# Altium integrated library Analog Devices Data Converters Digital-to-Analog Converters.IntLib: 2231 symbols (part 86 of 181)
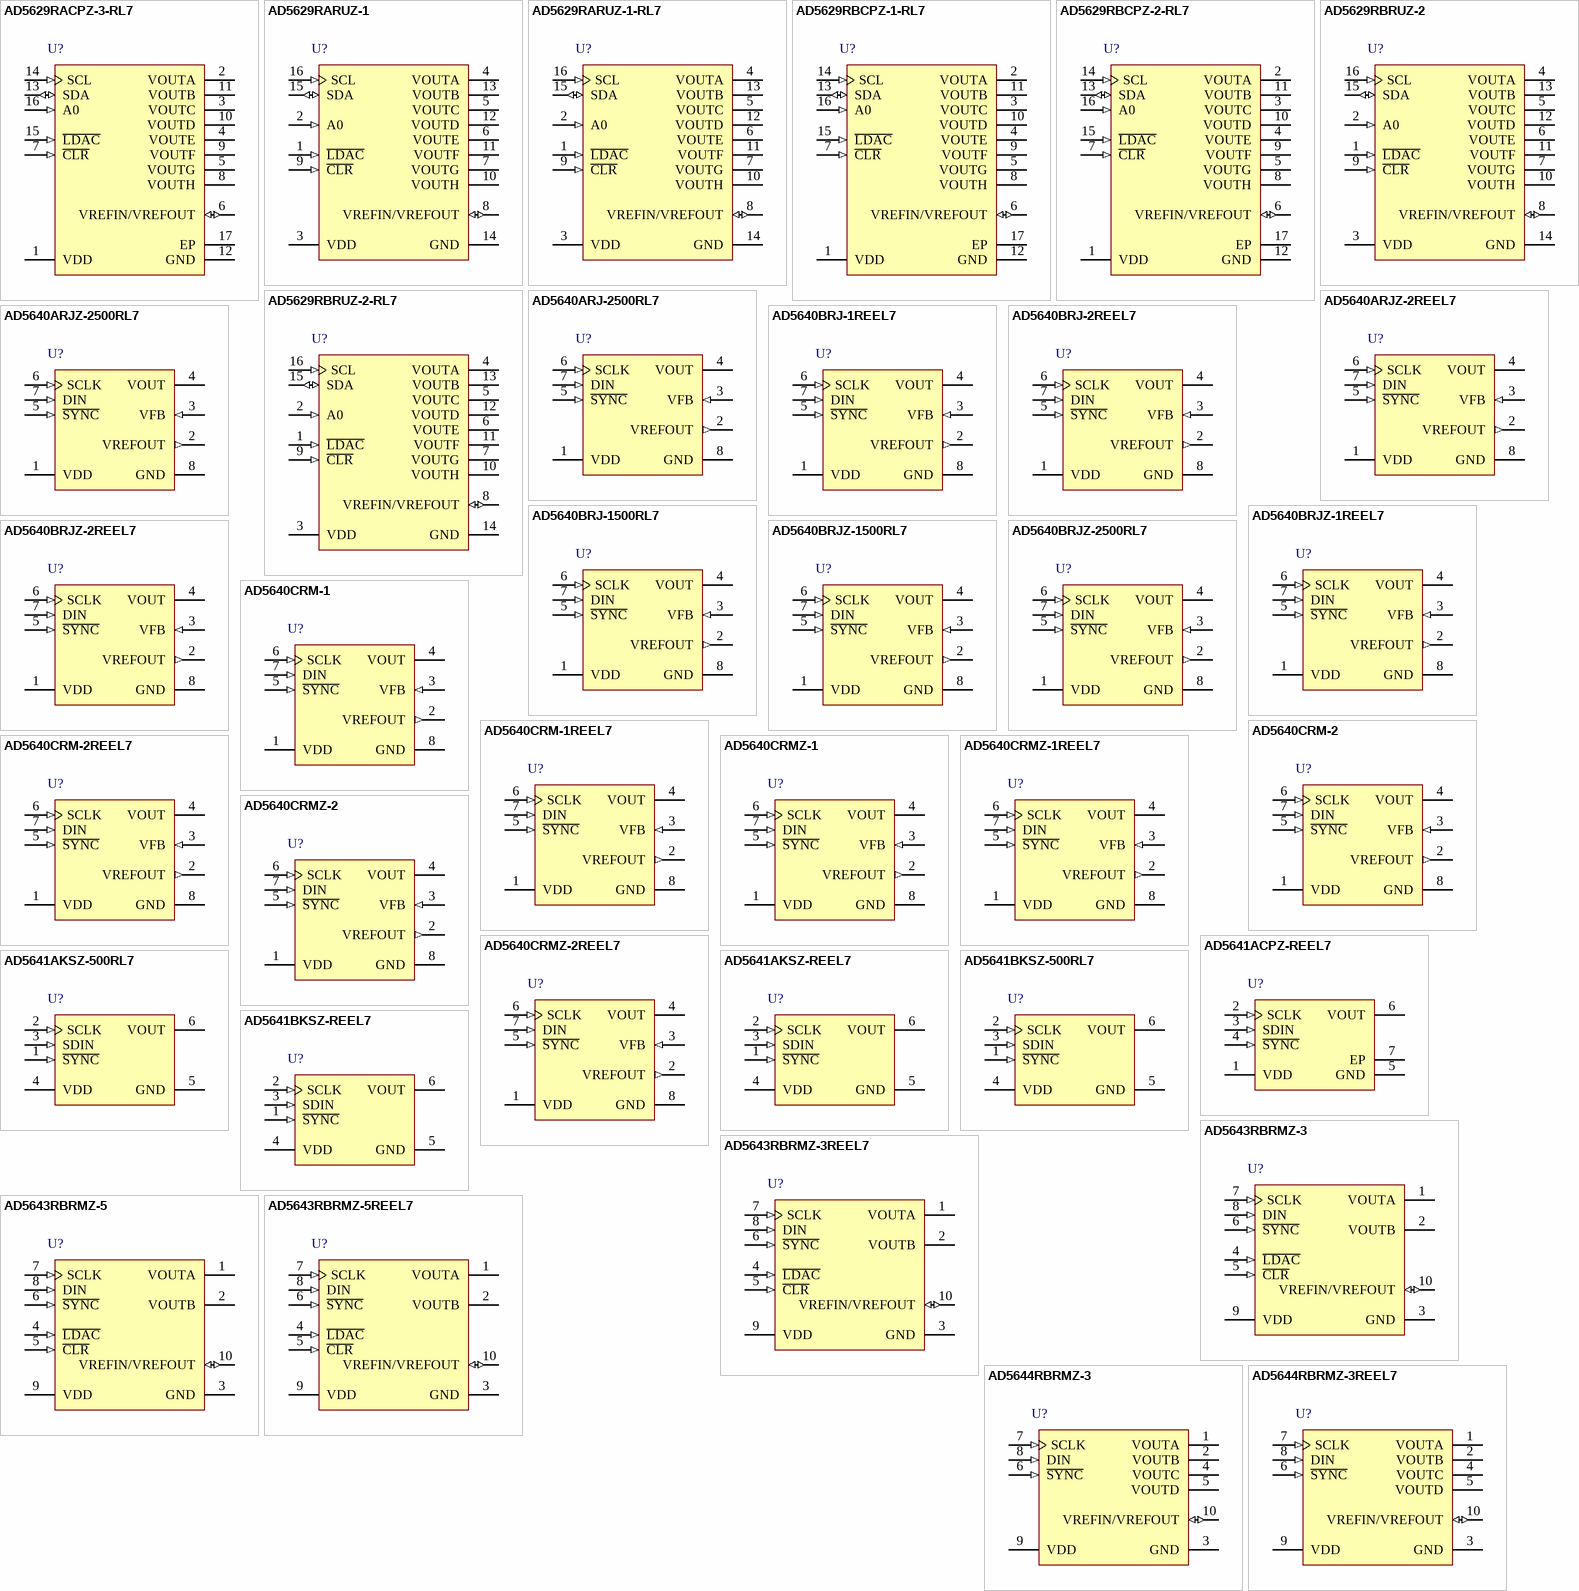
[diagram p199: symbols AD5629RACPZ-3-RL7 to AD5644RBRMZ-3REEL7]

## AD5640BRJZ-1REEL7
designator U?
Single 14-Bit nanoDAC with 5 ppm/degC On-Chip Reference, -40 to +105 degC, RJ-8, Pb-Free, Reel; Generic Part Number: AD5640; Manufacturer: Analog Devices; PartNumber: AD5640BRJZ-1REEL7; # DAC Outputs: 1; Max V+: 5.5V; Op Pwr Diss: 5mW; Resolution (Bits): 14; Settling Time: 8µs; Single Supply: Yes; DatasheetVersion: Rev.F; PackageVersion: 121608-A; PackageReference: RJ-8; PackageDescription: 8-Lead Thin Small Outline Transistor Package [SOT-23]; Supplier 1: Digi-Key; Supplier Part Number 1: AD5640BRJZ-1REEL7TR-ND; Supplier 2: Digi-Key; Supplier Part Number 2: AD5640BRJZ-1REEL7CT-ND; Supplier 3: Digi-Key; Supplier Part Number 3: AD5640BRJZ-1REEL7DKR-ND; Supplier 4: Farnell; Supplier Part Number 4: 2314130; Supplier 5: Newark; Supplier Part Number 5: 67W3165; Supplier 6: Newark; Supplier Part Number 6: 89M5008; Supplier 7: Mouser; Supplier Part Number 7: 584-AD5640BRJZ-1R7; Packing: Reel; RoHS: Y; Mounting Technology: Surface Mount; Code_JEDEC: MO-178-BA; ComponentLink1Description: Manufacturer URL; ComponentLink1URL: http://www.analog.com/en/index.html; ComponentLink2Description: Datasheet; ComponentLink2URL: http://www.analog.com/static/imported-files/data_sheets/AD5620_5640_5660.pdf; ComponentLink3Description: Package Specification; ComponentLink3URL: http://www.analog.com/static/imported-files/packages/PKG_PDF/SOT-23(RJ)/RJ_8.pdf; ComponentLink4Description: Product URL; ComponentLink4URL: http://www.analog.com/en/digital-to-analog-converters/da-converters/ad5640/products/product.html
footprint RJ-8_N (SOP, 8-Leads, Body 2.9x1.6mm, Pitch 0.65mm, IPC Medium Density)
footprint RJ-8_L (SOP, 8-Leads, Body 2.9x1.6mm, Pitch 0.65mm, IPC High Density)
footprint RJ-8_M (SOP, 8-Leads, Body 2.9x1.6mm, Pitch 0.65mm, IPC Low Density)
pins: 1 VDD (power) "Power Supply Input. These parts can operate from 2.7 V to 5.5 V. VDD should be decoupled to GND.", 2 VREFOUT (out) "Reference Voltage Output.", 3 VFB (in) "Feedback Connection for the Output Amplifier. VFB should be connected to VOUT for normal operation.", 4 VOUT (hiz) "Analog Output Voltage from DAC. The output amplifier has rail-to-rail operation.", 5 ~{SYNC} (in) "Level-Triggered Control Input (Active Low). This is the frame synchronization signal for the input data. When S\Y\N\C\ goes low, it enables the input shift register and data is transferred in on the falling edges of the (See Datasheet)", 6 SCLK (in) "Serial Clock Input. Data is clocked into the input shift register on the falling edge of the serial clock input. Data can be transferred at rates up to 30 MHz.", 7 DIN (in) "Serial Data Input. The AD5660 has a 24-bit shift register, and the AD5620/AD5640 have a 16-bit shift register.Data is clocked into the register on the falling edge of the serial clock input.", 8 GND (power) "Ground Reference Point for all Circuitry on the Part."

## AD5640BRJZ-2REEL7
designator U?
Single 14-Bit nanoDAC with 5 ppm/degC On-Chip Reference, -40 to +105 degC, RJ-8, Pb-Free, Reel; Generic Part Number: AD5640; Manufacturer: Analog Devices; PartNumber: AD5640BRJZ-2REEL7; # DAC Outputs: 1; Max V+: 5.5V; Op Pwr Diss: 5mW; Resolution (Bits): 14; Settling Time: 8µs; Single Supply: Yes; DatasheetVersion: Rev.F; PackageVersion: 121608-A; PackageReference: RJ-8; PackageDescription: 8-Lead Thin Small Outline Transistor Package [SOT-23]; Supplier 1: Digi-Key; Supplier Part Number 1: AD5640BRJZ-2REEL7TR-ND; Supplier 2: Digi-Key; Supplier Part Number 2: AD5640BRJZ-2REEL7CT-ND; Supplier 3: Digi-Key; Supplier Part Number 3: AD5640BRJZ-2REEL7DKR-ND; Supplier 4: Mouser; Supplier Part Number 4: 584-AD5640BRJZ-2R7; Packing: Reel; RoHS: Y; Mounting Technology: Surface Mount; Code_JEDEC: MO-178-BA; ComponentLink1Description: Manufacturer URL; ComponentLink1URL: http://www.analog.com/en/index.html; ComponentLink2Description: Datasheet; ComponentLink2URL: http://www.analog.com/static/imported-files/data_sheets/AD5620_5640_5660.pdf; ComponentLink3Description: Package Specification; ComponentLink3URL: http://www.analog.com/static/imported-files/packages/PKG_PDF/SOT-23(RJ)/RJ_8.pdf; ComponentLink4Description: Product URL; ComponentLink4URL: http://www.analog.com/en/digital-to-analog-converters/da-converters/ad5640/products/product.html
footprint RJ-8_N (SOP, 8-Leads, Body 2.9x1.6mm, Pitch 0.65mm, IPC Medium Density)
footprint RJ-8_L (SOP, 8-Leads, Body 2.9x1.6mm, Pitch 0.65mm, IPC High Density)
footprint RJ-8_M (SOP, 8-Leads, Body 2.9x1.6mm, Pitch 0.65mm, IPC Low Density)
pins: 1 VDD (power) "Power Supply Input. These parts can operate from 2.7 V to 5.5 V. VDD should be decoupled to GND.", 2 VREFOUT (out) "Reference Voltage Output.", 3 VFB (in) "Feedback Connection for the Output Amplifier. VFB should be connected to VOUT for normal operation.", 4 VOUT (hiz) "Analog Output Voltage from DAC. The output amplifier has rail-to-rail operation.", 5 ~{SYNC} (in) "Level-Triggered Control Input (Active Low). This is the frame synchronization signal for the input data. When S\Y\N\C\ goes low, it enables the input shift register and data is transferred in on the falling edges of the (See Datasheet)", 6 SCLK (in) "Serial Clock Input. Data is clocked into the input shift register on the falling edge of the serial clock input. Data can be transferred at rates up to 30 MHz.", 7 DIN (in) "Serial Data Input. The AD5660 has a 24-bit shift register, and the AD5620/AD5640 have a 16-bit shift register.Data is clocked into the register on the falling edge of the serial clock input.", 8 GND (power) "Ground Reference Point for all Circuitry on the Part."

## AD5640BRJZ-1500RL7
designator U?
Single 14-Bit nanoDAC with 5 ppm/degC On-Chip Reference, -40 to +105 degC, RJ-8, Pb-Free, Reel; Generic Part Number: AD5640; Manufacturer: Analog Devices; PartNumber: AD5640BRJZ-1500RL7; # DAC Outputs: 1; Max V+: 5.5V; Op Pwr Diss: 5mW; Resolution (Bits): 14; Settling Time: 8µs; Single Supply: Yes; DatasheetVersion: Rev.F; PackageVersion: 121608-A; PackageReference: RJ-8; PackageDescription: 8-Lead Thin Small Outline Transistor Package [SOT-23]; Supplier 1: Digi-Key; Supplier Part Number 1: AD5640BRJZ-1500RL7TR-ND; Supplier 2: Digi-Key; Supplier Part Number 2: AD5640BRJZ-1500RL7CT-ND; Supplier 3: Digi-Key; Supplier Part Number 3: AD5640BRJZ-1500RL7DKR-ND; Supplier 4: Newark; Supplier Part Number 4: 89M5009; Supplier 5: Mouser; Supplier Part Number 5: 584-AD5640BRJZ1500R7; Packing: Reel; RoHS: Y; Mounting Technology: Surface Mount; Code_JEDEC: MO-178-BA; ComponentLink1Description: Manufacturer URL; ComponentLink1URL: http://www.analog.com/en/index.html; ComponentLink2Description: Datasheet; ComponentLink2URL: http://www.analog.com/static/imported-files/data_sheets/AD5620_5640_5660.pdf; ComponentLink3Description: Package Specification; ComponentLink3URL: http://www.analog.com/static/imported-files/packages/PKG_PDF/SOT-23(RJ)/RJ_8.pdf; ComponentLink4Description: Product URL; ComponentLink4URL: http://www.analog.com/en/digital-to-analog-converters/da-converters/ad5640/products/product.html
footprint RJ-8_N (SOP, 8-Leads, Body 2.9x1.6mm, Pitch 0.65mm, IPC Medium Density)
footprint RJ-8_L (SOP, 8-Leads, Body 2.9x1.6mm, Pitch 0.65mm, IPC High Density)
footprint RJ-8_M (SOP, 8-Leads, Body 2.9x1.6mm, Pitch 0.65mm, IPC Low Density)
pins: 1 VDD (power) "Power Supply Input. These parts can operate from 2.7 V to 5.5 V. VDD should be decoupled to GND.", 2 VREFOUT (out) "Reference Voltage Output.", 3 VFB (in) "Feedback Connection for the Output Amplifier. VFB should be connected to VOUT for normal operation.", 4 VOUT (hiz) "Analog Output Voltage from DAC. The output amplifier has rail-to-rail operation.", 5 ~{SYNC} (in) "Level-Triggered Control Input (Active Low). This is the frame synchronization signal for the input data. When S\Y\N\C\ goes low, it enables the input shift register and data is transferred in on the falling edges of the (See Datasheet)", 6 SCLK (in) "Serial Clock Input. Data is clocked into the input shift register on the falling edge of the serial clock input. Data can be transferred at rates up to 30 MHz.", 7 DIN (in) "Serial Data Input. The AD5660 has a 24-bit shift register, and the AD5620/AD5640 have a 16-bit shift register.Data is clocked into the register on the falling edge of the serial clock input.", 8 GND (power) "Ground Reference Point for all Circuitry on the Part."

## AD5640BRJZ-2500RL7
designator U?
Single 14-Bit nanoDAC with 5 ppm/degC On-Chip Reference, -40 to +105 degC, RJ-8, Pb-Free, Reel; Generic Part Number: AD5640; Manufacturer: Analog Devices; PartNumber: AD5640BRJZ-2500RL7; # DAC Outputs: 1; Max V+: 5.5V; Op Pwr Diss: 5mW; Resolution (Bits): 14; Settling Time: 8µs; Single Supply: Yes; DatasheetVersion: Rev.F; PackageVersion: 121608-A; PackageReference: RJ-8; PackageDescription: 8-Lead Thin Small Outline Transistor Package [SOT-23]; Supplier 1: Digi-Key; Supplier Part Number 1: AD5640BRJZ-2500RL7TR-ND; Supplier 2: Digi-Key; Supplier Part Number 2: AD5640BRJZ-2500RL7CT-ND; Supplier 3: Digi-Key; Supplier Part Number 3: AD5640BRJZ-2500RL7DKR-ND; Supplier 4: Mouser; Supplier Part Number 4: 584-AD5640BRJZ2500R7; Packing: Reel; RoHS: Y; Mounting Technology: Surface Mount; Code_JEDEC: MO-178-BA; ComponentLink1Description: Manufacturer URL; ComponentLink1URL: http://www.analog.com/en/index.html; ComponentLink2Description: Datasheet; ComponentLink2URL: http://www.analog.com/static/imported-files/data_sheets/AD5620_5640_5660.pdf; ComponentLink3Description: Package Specification; ComponentLink3URL: http://www.analog.com/static/imported-files/packages/PKG_PDF/SOT-23(RJ)/RJ_8.pdf; ComponentLink4Description: Product URL; ComponentLink4URL: http://www.analog.com/en/digital-to-analog-converters/da-converters/ad5640/products/product.html
footprint RJ-8_N (SOP, 8-Leads, Body 2.9x1.6mm, Pitch 0.65mm, IPC Medium Density)
footprint RJ-8_L (SOP, 8-Leads, Body 2.9x1.6mm, Pitch 0.65mm, IPC High Density)
footprint RJ-8_M (SOP, 8-Leads, Body 2.9x1.6mm, Pitch 0.65mm, IPC Low Density)
pins: 1 VDD (power) "Power Supply Input. These parts can operate from 2.7 V to 5.5 V. VDD should be decoupled to GND.", 2 VREFOUT (out) "Reference Voltage Output.", 3 VFB (in) "Feedback Connection for the Output Amplifier. VFB should be connected to VOUT for normal operation.", 4 VOUT (hiz) "Analog Output Voltage from DAC. The output amplifier has rail-to-rail operation.", 5 ~{SYNC} (in) "Level-Triggered Control Input (Active Low). This is the frame synchronization signal for the input data. When S\Y\N\C\ goes low, it enables the input shift register and data is transferred in on the falling edges of the (See Datasheet)", 6 SCLK (in) "Serial Clock Input. Data is clocked into the input shift register on the falling edge of the serial clock input. Data can be transferred at rates up to 30 MHz.", 7 DIN (in) "Serial Data Input. The AD5660 has a 24-bit shift register, and the AD5620/AD5640 have a 16-bit shift register.Data is clocked into the register on the falling edge of the serial clock input.", 8 GND (power) "Ground Reference Point for all Circuitry on the Part."

## AD5640CRM-1
designator U?
Single 14-Bit nanoDAC with 5 ppm/degC On-Chip Reference, -40 to +105 degC, RM-8, Tube; Generic Part Number: AD5640; Manufacturer: Analog Devices; PartNumber: AD5640CRM-1; # DAC Outputs: 1; Max V+: 5.5V; Op Pwr Diss: 5mW; Resolution (Bits): 14; Settling Time: 8µs; Single Supply: Yes; DatasheetVersion: Rev.F; PackageVersion: Aug-2005; PackageReference: RM-8; PackageDescription: 8-Lead Mini Small Outline Package [MSOP]; Supplier 1: Digi-Key; Supplier Part Number 1: AD5640CRM-1-ND; Supplier 2: Newark; Supplier Part Number 2: 12M8600; Supplier 3: Mouser; Supplier Part Number 3: 584-AD5640CRM-1; Packing: Tube; RoHS: N; Mounting Technology: Surface Mount; Code_JEDEC: MO-187-AA; ComponentLink1Description: Manufacturer URL; ComponentLink1URL: http://www.analog.com/en/index.html; ComponentLink2Description: Datasheet; ComponentLink2URL: http://www.analog.com/static/imported-files/data_sheets/AD5620_5640_5660.pdf; ComponentLink3Description: Package Specification; ComponentLink3URL: http://www.analog.com/static/imported-files/packages/PKG_PDF/MSOP%28RM%29/RM_8.pdf; ComponentLink4Description: Product URL; ComponentLink4URL: http://www.analog.com/en/digital-to-analog-converters/da-converters/ad5640/products/product.html
footprint RM-8_N (TSOP, 8-Leads, Body 3x3mm, Pitch 0.65mm, IPC Medium Density)
footprint RM-8_L (TSOP, 8-Leads, Body 3x3mm, Pitch 0.65mm, IPC High Density)
footprint RM-8_M (TSOP, 8-Leads, Body 3x3mm, Pitch 0.65mm, IPC Low Density)
pins: 1 VDD (power) "Power Supply Input. These parts can operate from 2.7 V to 5.5 V. VDD should be decoupled to GND.", 2 VREFOUT (out) "Reference Voltage Output.", 3 VFB (in) "Feedback Connection for the Output Amplifier. VFB should be connected to VOUT for normal operation.", 4 VOUT (hiz) "Analog Output Voltage from DAC. The output amplifier has rail-to-rail operation.", 5 ~{SYNC} (in) "Level-Triggered Control Input (Active Low). This is the frame synchronization signal for the input data. When S\Y\N\C\ goes low, it enables the input shift register and data is transferred in on the falling edges of the (See Datasheet)", 6 SCLK (in) "Serial Clock Input. Data is clocked into the input shift register on the falling edge of the serial clock input. Data can be transferred at rates up to 30 MHz.", 7 DIN (in) "Serial Data Input. The AD5660 has a 24-bit shift register, and the AD5620/AD5640 have a 16-bit shift register. Data is clocked into the register on the falling edge of the serial clock input.", 8 GND (power) "Ground Reference Point for all Circuitry on the Part."

## AD5640CRM-1REEL7
designator U?
Single 14-Bit nanoDAC with 5 ppm/degC On-Chip Reference, -40 to +105 degC, RM-8, Reel; Generic Part Number: AD5640; Manufacturer: Analog Devices; PartNumber: AD5640CRM-1REEL7; # DAC Outputs: 1; Max V+: 5.5V; Op Pwr Diss: 5mW; Resolution (Bits): 14; Settling Time: 8µs; Single Supply: Yes; DatasheetVersion: Rev.F; PackageVersion: Aug-2005; PackageReference: RM-8; PackageDescription: 8-Lead Mini Small Outline Package [MSOP]; Supplier 1: Digi-Key; Supplier Part Number 1: AD5640CRM-1REEL7-ND; Supplier 2: Mouser; Supplier Part Number 2: 584-AD5640CRM-1R7; Packing: Reel; RoHS: N; Mounting Technology: Surface Mount; Code_JEDEC: MO-187-AA; ComponentLink1Description: Manufacturer URL; ComponentLink1URL: http://www.analog.com/en/index.html; ComponentLink2Description: Datasheet; ComponentLink2URL: http://www.analog.com/static/imported-files/data_sheets/AD5620_5640_5660.pdf; ComponentLink3Description: Package Specification; ComponentLink3URL: http://www.analog.com/static/imported-files/packages/PKG_PDF/MSOP%28RM%29/RM_8.pdf; ComponentLink4Description: Product URL; ComponentLink4URL: http://www.analog.com/en/digital-to-analog-converters/da-converters/ad5640/products/product.html
footprint RM-8_N (TSOP, 8-Leads, Body 3x3mm, Pitch 0.65mm, IPC Medium Density)
footprint RM-8_L (TSOP, 8-Leads, Body 3x3mm, Pitch 0.65mm, IPC High Density)
footprint RM-8_M (TSOP, 8-Leads, Body 3x3mm, Pitch 0.65mm, IPC Low Density)
pins: 1 VDD (power) "Power Supply Input. These parts can operate from 2.7 V to 5.5 V. VDD should be decoupled to GND.", 2 VREFOUT (out) "Reference Voltage Output.", 3 VFB (in) "Feedback Connection for the Output Amplifier. VFB should be connected to VOUT for normal operation.", 4 VOUT (hiz) "Analog Output Voltage from DAC. The output amplifier has rail-to-rail operation.", 5 ~{SYNC} (in) "Level-Triggered Control Input (Active Low). This is the frame synchronization signal for the input data. When S\Y\N\C\ goes low, it enables the input shift register and data is transferred in on the falling edges of the (See Datasheet)", 6 SCLK (in) "Serial Clock Input. Data is clocked into the input shift register on the falling edge of the serial clock input. Data can be transferred at rates up to 30 MHz.", 7 DIN (in) "Serial Data Input. The AD5660 has a 24-bit shift register, and the AD5620/AD5640 have a 16-bit shift register. Data is clocked into the register on the falling edge of the serial clock input.", 8 GND (power) "Ground Reference Point for all Circuitry on the Part."

## AD5640CRM-2
designator U?
Single 14-Bit nanoDAC with 5 ppm/degC On-Chip Reference, -40 to +105 degC, RM-8, Tube; Generic Part Number: AD5640; Manufacturer: Analog Devices; PartNumber: AD5640CRM-2; # DAC Outputs: 1; Max V+: 5.5V; Op Pwr Diss: 5mW; Resolution (Bits): 14; Settling Time: 8µs; Single Supply: Yes; DatasheetVersion: Rev.F; PackageVersion: Aug-2005; PackageReference: RM-8; PackageDescription: 8-Lead Mini Small Outline Package [MSOP]; Supplier 1: Digi-Key; Supplier Part Number 1: AD5640CRM-2-ND; Supplier 2: Newark; Supplier Part Number 2: 12M8602; Supplier 3: Mouser; Supplier Part Number 3: 584-AD5640CRM-2; Packing: Tube; RoHS: N; Mounting Technology: Surface Mount; Code_JEDEC: MO-187-AA; ComponentLink1Description: Manufacturer URL; ComponentLink1URL: http://www.analog.com/en/index.html; ComponentLink2Description: Datasheet; ComponentLink2URL: http://www.analog.com/static/imported-files/data_sheets/AD5620_5640_5660.pdf; ComponentLink3Description: Package Specification; ComponentLink3URL: http://www.analog.com/static/imported-files/packages/PKG_PDF/MSOP%28RM%29/RM_8.pdf; ComponentLink4Description: Product URL; ComponentLink4URL: http://www.analog.com/en/digital-to-analog-converters/da-converters/ad5640/products/product.html
footprint RM-8_N (TSOP, 8-Leads, Body 3x3mm, Pitch 0.65mm, IPC Medium Density)
footprint RM-8_L (TSOP, 8-Leads, Body 3x3mm, Pitch 0.65mm, IPC High Density)
footprint RM-8_M (TSOP, 8-Leads, Body 3x3mm, Pitch 0.65mm, IPC Low Density)
pins: 1 VDD (power) "Power Supply Input. These parts can operate from 2.7 V to 5.5 V. VDD should be decoupled to GND.", 2 VREFOUT (out) "Reference Voltage Output.", 3 VFB (in) "Feedback Connection for the Output Amplifier. VFB should be connected to VOUT for normal operation.", 4 VOUT (hiz) "Analog Output Voltage from DAC. The output amplifier has rail-to-rail operation.", 5 ~{SYNC} (in) "Level-Triggered Control Input (Active Low). This is the frame synchronization signal for the input data. When S\Y\N\C\ goes low, it enables the input shift register and data is transferred in on the falling edges of the (See Datasheet)", 6 SCLK (in) "Serial Clock Input. Data is clocked into the input shift register on the falling edge of the serial clock input. Data can be transferred at rates up to 30 MHz.", 7 DIN (in) "Serial Data Input. The AD5660 has a 24-bit shift register, and the AD5620/AD5640 have a 16-bit shift register. Data is clocked into the register on the falling edge of the serial clock input.", 8 GND (power) "Ground Reference Point for all Circuitry on the Part."

## AD5640CRM-2REEL7
designator U?
Single 14-Bit nanoDAC with 5 ppm/degC On-Chip Reference, -40 to +105 degC, RM-8, Reel; Generic Part Number: AD5640; Manufacturer: Analog Devices; PartNumber: AD5640CRM-2REEL7; # DAC Outputs: 1; Max V+: 5.5V; Op Pwr Diss: 5mW; Resolution (Bits): 14; Settling Time: 8µs; Single Supply: Yes; DatasheetVersion: Rev.F; PackageVersion: Aug-2005; PackageReference: RM-8; PackageDescription: 8-Lead Mini Small Outline Package [MSOP]; Supplier 1: Digi-Key; Supplier Part Number 1: AD5640CRM-2REEL7-ND; Supplier 2: Mouser; Supplier Part Number 2: 584-AD5640CRM-2R7; Packing: Reel; RoHS: N; Mounting Technology: Surface Mount; Code_JEDEC: MO-187-AA; ComponentLink1Description: Manufacturer URL; ComponentLink1URL: http://www.analog.com/en/index.html; ComponentLink2Description: Datasheet; ComponentLink2URL: http://www.analog.com/static/imported-files/data_sheets/AD5620_5640_5660.pdf; ComponentLink3Description: Package Specification; ComponentLink3URL: http://www.analog.com/static/imported-files/packages/PKG_PDF/MSOP%28RM%29/RM_8.pdf; ComponentLink4Description: Product URL; ComponentLink4URL: http://www.analog.com/en/digital-to-analog-converters/da-converters/ad5640/products/product.html
footprint RM-8_N (TSOP, 8-Leads, Body 3x3mm, Pitch 0.65mm, IPC Medium Density)
footprint RM-8_L (TSOP, 8-Leads, Body 3x3mm, Pitch 0.65mm, IPC High Density)
footprint RM-8_M (TSOP, 8-Leads, Body 3x3mm, Pitch 0.65mm, IPC Low Density)
pins: 1 VDD (power) "Power Supply Input. These parts can operate from 2.7 V to 5.5 V. VDD should be decoupled to GND.", 2 VREFOUT (out) "Reference Voltage Output.", 3 VFB (in) "Feedback Connection for the Output Amplifier. VFB should be connected to VOUT for normal operation.", 4 VOUT (hiz) "Analog Output Voltage from DAC. The output amplifier has rail-to-rail operation.", 5 ~{SYNC} (in) "Level-Triggered Control Input (Active Low). This is the frame synchronization signal for the input data. When S\Y\N\C\ goes low, it enables the input shift register and data is transferred in on the falling edges of the (See Datasheet)", 6 SCLK (in) "Serial Clock Input. Data is clocked into the input shift register on the falling edge of the serial clock input. Data can be transferred at rates up to 30 MHz.", 7 DIN (in) "Serial Data Input. The AD5660 has a 24-bit shift register, and the AD5620/AD5640 have a 16-bit shift register. Data is clocked into the register on the falling edge of the serial clock input.", 8 GND (power) "Ground Reference Point for all Circuitry on the Part."

## AD5640CRMZ-1
designator U?
Single 14-Bit nanoDAC with 5 ppm/degC On-Chip Reference, -40 to +105 degC, RM-8, Pb-Free, Tube; Generic Part Number: AD5640; Manufacturer: Analog Devices; PartNumber: AD5640CRMZ-1; # DAC Outputs: 1; Max V+: 5.5V; Op Pwr Diss: 5mW; Resolution (Bits): 14; Settling Time: 8µs; Single Supply: Yes; DatasheetVersion: Rev.F; PackageVersion: Aug-2005; PackageReference: RM-8; PackageDescription: 8-Lead Mini Small Outline Package [MSOP]; Supplier 1: Digi-Key; Supplier Part Number 1: AD5640CRMZ-1-ND; Supplier 2: Mouser; Supplier Part Number 2: 584-AD5640CRMZ-1; Packing: Tube; RoHS: Y; Mounting Technology: Surface Mount; Code_JEDEC: MO-187-AA; ComponentLink1Description: Manufacturer URL; ComponentLink1URL: http://www.analog.com/en/index.html; ComponentLink2Description: Datasheet; ComponentLink2URL: http://www.analog.com/static/imported-files/data_sheets/AD5620_5640_5660.pdf; ComponentLink3Description: Package Specification; ComponentLink3URL: http://www.analog.com/static/imported-files/packages/PKG_PDF/MSOP%28RM%29/RM_8.pdf; ComponentLink4Description: Product URL; ComponentLink4URL: http://www.analog.com/en/digital-to-analog-converters/da-converters/ad5640/products/product.html
footprint RM-8_N (TSOP, 8-Leads, Body 3x3mm, Pitch 0.65mm, IPC Medium Density)
footprint RM-8_L (TSOP, 8-Leads, Body 3x3mm, Pitch 0.65mm, IPC High Density)
footprint RM-8_M (TSOP, 8-Leads, Body 3x3mm, Pitch 0.65mm, IPC Low Density)
pins: 1 VDD (power) "Power Supply Input. These parts can operate from 2.7 V to 5.5 V. VDD should be decoupled to GND.", 2 VREFOUT (out) "Reference Voltage Output.", 3 VFB (in) "Feedback Connection for the Output Amplifier. VFB should be connected to VOUT for normal operation.", 4 VOUT (hiz) "Analog Output Voltage from DAC. The output amplifier has rail-to-rail operation.", 5 ~{SYNC} (in) "Level-Triggered Control Input (Active Low). This is the frame synchronization signal for the input data. When S\Y\N\C\ goes low, it enables the input shift register and data is transferred in on the falling edges of the (See Datasheet)", 6 SCLK (in) "Serial Clock Input. Data is clocked into the input shift register on the falling edge of the serial clock input. Data can be transferred at rates up to 30 MHz.", 7 DIN (in) "Serial Data Input. The AD5660 has a 24-bit shift register, and the AD5620/AD5640 have a 16-bit shift register. Data is clocked into the register on the falling edge of the serial clock input.", 8 GND (power) "Ground Reference Point for all Circuitry on the Part."

## AD5640CRMZ-1REEL7
designator U?
Single 14-Bit nanoDAC with 5 ppm/degC On-Chip Reference, -40 to +105 degC, RM-8, Pb-Free, Reel; Generic Part Number: AD5640; Manufacturer: Analog Devices; PartNumber: AD5640CRMZ-1REEL7; # DAC Outputs: 1; Max V+: 5.5V; Op Pwr Diss: 5mW; Resolution (Bits): 14; Settling Time: 8µs; Single Supply: Yes; DatasheetVersion: Rev.F; PackageVersion: Aug-2005; PackageReference: RM-8; PackageDescription: 8-Lead Mini Small Outline Package [MSOP]; Supplier 1: Digi-Key; Supplier Part Number 1: AD5640CRMZ-1REEL7-ND; Supplier 2: Mouser; Supplier Part Number 2: 584-AD5640CRMZ-1R7; Packing: Reel; RoHS: Y; Mounting Technology: Surface Mount; Code_JEDEC: MO-187-AA; ComponentLink1Description: Manufacturer URL; ComponentLink1URL: http://www.analog.com/en/index.html; ComponentLink2Description: Datasheet; ComponentLink2URL: http://www.analog.com/static/imported-files/data_sheets/AD5620_5640_5660.pdf; ComponentLink3Description: Package Specification; ComponentLink3URL: http://www.analog.com/static/imported-files/packages/PKG_PDF/MSOP%28RM%29/RM_8.pdf; ComponentLink4Description: Product URL; ComponentLink4URL: http://www.analog.com/en/digital-to-analog-converters/da-converters/ad5640/products/product.html
footprint RM-8_N (TSOP, 8-Leads, Body 3x3mm, Pitch 0.65mm, IPC Medium Density)
footprint RM-8_L (TSOP, 8-Leads, Body 3x3mm, Pitch 0.65mm, IPC High Density)
footprint RM-8_M (TSOP, 8-Leads, Body 3x3mm, Pitch 0.65mm, IPC Low Density)
pins: 1 VDD (power) "Power Supply Input. These parts can operate from 2.7 V to 5.5 V. VDD should be decoupled to GND.", 2 VREFOUT (out) "Reference Voltage Output.", 3 VFB (in) "Feedback Connection for the Output Amplifier. VFB should be connected to VOUT for normal operation.", 4 VOUT (hiz) "Analog Output Voltage from DAC. The output amplifier has rail-to-rail operation.", 5 ~{SYNC} (in) "Level-Triggered Control Input (Active Low). This is the frame synchronization signal for the input data. When S\Y\N\C\ goes low, it enables the input shift register and data is transferred in on the falling edges of the (See Datasheet)", 6 SCLK (in) "Serial Clock Input. Data is clocked into the input shift register on the falling edge of the serial clock input. Data can be transferred at rates up to 30 MHz.", 7 DIN (in) "Serial Data Input. The AD5660 has a 24-bit shift register, and the AD5620/AD5640 have a 16-bit shift register. Data is clocked into the register on the falling edge of the serial clock input.", 8 GND (power) "Ground Reference Point for all Circuitry on the Part."

## AD5640CRMZ-2
designator U?
Single 14-Bit nanoDAC with 5 ppm/degC On-Chip Reference, -40 to +105 degC, RM-8, Pb-Free, Tube; Generic Part Number: AD5640; Manufacturer: Analog Devices; PartNumber: AD5640CRMZ-2; # DAC Outputs: 1; Max V+: 5.5V; Op Pwr Diss: 5mW; Resolution (Bits): 14; Settling Time: 8µs; Single Supply: Yes; DatasheetVersion: Rev.F; PackageVersion: Aug-2005; PackageReference: RM-8; PackageDescription: 8-Lead Mini Small Outline Package [MSOP]; Supplier 1: Digi-Key; Supplier Part Number 1: AD5640CRMZ-2-ND; Supplier 2: Mouser; Supplier Part Number 2: 584-AD5640CRMZ-2; Packing: Tube; RoHS: Y; Mounting Technology: Surface Mount; Code_JEDEC: MO-187-AA; ComponentLink1Description: Manufacturer URL; ComponentLink1URL: http://www.analog.com/en/index.html; ComponentLink2Description: Datasheet; ComponentLink2URL: http://www.analog.com/static/imported-files/data_sheets/AD5620_5640_5660.pdf; ComponentLink3Description: Package Specification; ComponentLink3URL: http://www.analog.com/static/imported-files/packages/PKG_PDF/MSOP%28RM%29/RM_8.pdf; ComponentLink4Description: Product URL; ComponentLink4URL: http://www.analog.com/en/digital-to-analog-converters/da-converters/ad5640/products/product.html
footprint RM-8_N (TSOP, 8-Leads, Body 3x3mm, Pitch 0.65mm, IPC Medium Density)
footprint RM-8_L (TSOP, 8-Leads, Body 3x3mm, Pitch 0.65mm, IPC High Density)
footprint RM-8_M (TSOP, 8-Leads, Body 3x3mm, Pitch 0.65mm, IPC Low Density)
pins: 1 VDD (power) "Power Supply Input. These parts can operate from 2.7 V to 5.5 V. VDD should be decoupled to GND.", 2 VREFOUT (out) "Reference Voltage Output.", 3 VFB (in) "Feedback Connection for the Output Amplifier. VFB should be connected to VOUT for normal operation.", 4 VOUT (hiz) "Analog Output Voltage from DAC. The output amplifier has rail-to-rail operation.", 5 ~{SYNC} (in) "Level-Triggered Control Input (Active Low). This is the frame synchronization signal for the input data. When S\Y\N\C\ goes low, it enables the input shift register and data is transferred in on the falling edges of the (See Datasheet)", 6 SCLK (in) "Serial Clock Input. Data is clocked into the input shift register on the falling edge of the serial clock input. Data can be transferred at rates up to 30 MHz.", 7 DIN (in) "Serial Data Input. The AD5660 has a 24-bit shift register, and the AD5620/AD5640 have a 16-bit shift register. Data is clocked into the register on the falling edge of the serial clock input.", 8 GND (power) "Ground Reference Point for all Circuitry on the Part."

## AD5640CRMZ-2REEL7
designator U?
Single 14-Bit nanoDAC with 5 ppm/degC On-Chip Reference, -40 to +105 degC, RM-8, Pb-Free, Reel; Generic Part Number: AD5640; Manufacturer: Analog Devices; PartNumber: AD5640CRMZ-2REEL7; # DAC Outputs: 1; Max V+: 5.5V; Op Pwr Diss: 5mW; Resolution (Bits): 14; Settling Time: 8µs; Single Supply: Yes; DatasheetVersion: Rev.F; PackageVersion: Aug-2005; PackageReference: RM-8; PackageDescription: 8-Lead Mini Small Outline Package [MSOP]; Supplier 1: Digi-Key; Supplier Part Number 1: AD5640CRMZ-2REEL7-ND; Supplier 2: Mouser; Supplier Part Number 2: 584-AD5640CRMZ-2R7; Packing: Reel; RoHS: Y; Mounting Technology: Surface Mount; Code_JEDEC: MO-187-AA; ComponentLink1Description: Manufacturer URL; ComponentLink1URL: http://www.analog.com/en/index.html; ComponentLink2Description: Datasheet; ComponentLink2URL: http://www.analog.com/static/imported-files/data_sheets/AD5620_5640_5660.pdf; ComponentLink3Description: Package Specification; ComponentLink3URL: http://www.analog.com/static/imported-files/packages/PKG_PDF/MSOP%28RM%29/RM_8.pdf; ComponentLink4Description: Product URL; ComponentLink4URL: http://www.analog.com/en/digital-to-analog-converters/da-converters/ad5640/products/product.html
footprint RM-8_N (TSOP, 8-Leads, Body 3x3mm, Pitch 0.65mm, IPC Medium Density)
footprint RM-8_L (TSOP, 8-Leads, Body 3x3mm, Pitch 0.65mm, IPC High Density)
footprint RM-8_M (TSOP, 8-Leads, Body 3x3mm, Pitch 0.65mm, IPC Low Density)
pins: 1 VDD (power) "Power Supply Input. These parts can operate from 2.7 V to 5.5 V. VDD should be decoupled to GND.", 2 VREFOUT (out) "Reference Voltage Output.", 3 VFB (in) "Feedback Connection for the Output Amplifier. VFB should be connected to VOUT for normal operation.", 4 VOUT (hiz) "Analog Output Voltage from DAC. The output amplifier has rail-to-rail operation.", 5 ~{SYNC} (in) "Level-Triggered Control Input (Active Low). This is the frame synchronization signal for the input data. When S\Y\N\C\ goes low, it enables the input shift register and data is transferred in on the falling edges of the (See Datasheet)", 6 SCLK (in) "Serial Clock Input. Data is clocked into the input shift register on the falling edge of the serial clock input. Data can be transferred at rates up to 30 MHz.", 7 DIN (in) "Serial Data Input. The AD5660 has a 24-bit shift register, and the AD5620/AD5640 have a 16-bit shift register. Data is clocked into the register on the falling edge of the serial clock input.", 8 GND (power) "Ground Reference Point for all Circuitry on the Part."

## AD5641ACPZ-REEL7
designator U?
Single 14-Bit nanoDAC with SPI Interface, 5 V, <100 uA, -40 to +125 degC, CP-6-5, Pb-Free, Reel; Generic Part Number: AD5641; Manufacturer: Analog Devices; PartNumber: AD5641ACPZ-REEL7; # DAC Outputs: 1; Max V+: 5.5V; Op Pwr Diss: 550µW; Resolution (Bits): 14; Settling Time: 6µs; Single Supply: Yes; DatasheetVersion: Rev.D; PackageVersion: 10-18-2010 A; PackageReference: CP-6-5; PackageDescription: 6-Lead Lead Frame Chip Scale Package [LFCSP_WD] 2 × 3 mm Body, Very Very Thin, Dual Lead; Supplier 1: Digi-Key; Supplier Part Number 1: AD5641ACPZ-REEL7TR-ND; Supplier 2: Digi-Key; Supplier Part Number 2: AD5641ACPZ-REEL7CT-ND; Supplier 3: Digi-Key; Supplier Part Number 3: AD5641ACPZ-REEL7DKR-ND; Supplier 4: Newark; Supplier Part Number 4: 86T6090; Supplier 5: Newark; Supplier Part Number 5: 92T3215; Supplier 6: Mouser; Supplier Part Number 6: 584-AD5641ACPZ-R7; Packing: Reel; RoHS: Y; Mounting Technology: Surface Mount; Code_JEDEC: MO-229; ComponentLink1Description: Manufacturer URL; ComponentLink1URL: http://www.analog.com/en/index.html; ComponentLink2Description: Datasheet; ComponentLink2URL: http://www.analog.com/static/imported-files/data_sheets/AD5641.pdf; ComponentLink3Description: Package Specification; ComponentLink3URL: http://www.analog.com/static/imported-files/data_sheets/AD5062.pdf; ComponentLink4Description: Product URL; ComponentLink4URL: http://www.analog.com/en/digital-to-analog-converters/da-converters/ad5641/products/product.html
footprint CP-6-5_N (SON, 6-Leads, Body 3x2mm, Pitch 0.65mm, Thermal Pad 1.6x1.4mm, IPC Medium Density)
footprint CP-6-5_L (SON, 6-Leads, Body 3x2mm, Pitch 0.65mm, Thermal Pad 1.6x1.4mm, IPC High Density)
footprint CP-6-5_M (SON, 6-Leads, Body 3x2mm, Pitch 0.65mm, Thermal Pad 1.6x1.4mm, IPC Low Density)
pins: 1 VDD (power) "Power Supply Input. The AD5641 can be operated from 2.7 V to 5.5 V. VDD should be decoupled to GND.", 2 SCLK (in) "Serial Clock Input. Data is clocked into the input shift register on the falling edge of the serial clock input. Data can be transferred at rates up to 30 MHz.", 3 SDIN (in) "Serial Data Input. This device has a 16-bit shift register. Data is clocked into the register on the falling edge of the serial clock input", 4 ~{SYNC} (in) "Level-Triggered Control Input (Active Low). This is the frame synchronization signal for the input data. When S\Y\N\C\ goes low, it enables the input shift register and data is transferred in on the falling edges of the (See Datasheet)", 5 GND (power) "Ground Reference Point for All Circuitry on the AD5641", 6 VOUT (hiz) "Analog Output Voltage from the DAC. The output amplifier has rail-to-rail operation.", 7 EP (power) "Exposed Pad. Connect to GND."

## AD5641AKSZ-500RL7
designator U?
Single 14-Bit nanoDAC with SPI Interface, 5 V, <100 uA, -40 to +125 degC, KS-6, Pb-Free, Reel; Generic Part Number: AD5641; Manufacturer: Analog Devices; PartNumber: AD5641AKSZ-500RL7; # DAC Outputs: 1; Max V+: 5.5V; Op Pwr Diss: 550µW; Resolution (Bits): 14; Settling Time: 6µs; Single Supply: Yes; DatasheetVersion: Rev.D; PackageVersion: 072809-A; PackageReference: KS-6; PackageDescription: 6-Lead Thin Shrink Small Outline Transistor Package [SC70]; Supplier 1: Digi-Key; Supplier Part Number 1: AD5641AKSZ-500RL7TR-ND; Supplier 2: Digi-Key; Supplier Part Number 2: AD5641AKSZ-500RL7CT-ND; Supplier 3: Digi-Key; Supplier Part Number 3: AD5641AKSZ-500RL7DKR-ND; Supplier 4: Farnell; Supplier Part Number 4: 1117910RL; Supplier 5: Farnell; Supplier Part Number 5: 1117910; Supplier 6: Newark; Supplier Part Number 6: 31M4137; Supplier 7: Newark; Supplier Part Number 7: 19M0827; Supplier 8: Newark; Supplier Part Number 8: 59K4289; Supplier 9: Mouser; Supplier Part Number 9: 584-AD5641AKSZ-500R7; Packing: Reel; RoHS: Y; Mounting Technology: Surface Mount; Code_JEDEC: MO-203-AB; ComponentLink1Description: Manufacturer URL; ComponentLink1URL: http://www.analog.com/en/index.html; ComponentLink2Description: Datasheet; ComponentLink2URL: http://www.analog.com/static/imported-files/data_sheets/AD5641.pdf; ComponentLink3Description: Package Specification; ComponentLink3URL: http://www.analog.com/static/imported-files/packages/PKG_PDF/SC70(KS)/KS_6.pdf; ComponentLink4Description: Product URL; ComponentLink4URL: http://www.analog.com/en/digital-to-analog-converters/da-converters/ad5641/products/product.html
footprint KS-6_N (SOT23, 6-Leads, Body 2x1.3mm, Pitch 0.65mm, Lead Span 2.1mm, IPC Medium Density)
footprint KS-6_L (SOT23, 6-Leads, Body 2x1.3mm, Pitch 0.65mm, Lead Span 2.1mm, IPC High Density)
footprint KS-6_M (SOT23, 6-Leads, Body 2x1.3mm, Pitch 0.65mm, Lead Span 2.1mm, IPC Low Density)
pins: 1 ~{SYNC} (in) "Level-Triggered Control Input (Active Low). This is the frame synchronization signal for the input data. When S\Y\N\C\ goes low, it enables the input shift register and data is transferred in on the falling edges of the (See Datasheet)", 2 SCLK (in) "Serial Clock Input. Data is clocked into the input shift register on the falling edge of the serial clock input. Data can be transferred at rates up to 30 MHz.", 3 SDIN (in) "Serial Data Input. This device has a 16-bit shift register. Data is clocked into the register on the fallingedge of the serial clock input.", 4 VDD (power) "Power Supply Input. The AD5641 can be operated from 2.7 V to 5.5 V. VDD should be decoupled toGND.", 5 GND (power) "Ground Reference Point for All Circuitry on the AD5641.", 6 VOUT (hiz) "Analog Output Voltage from the DAC. The output amplifier has rail-to-rail operation."

## AD5641AKSZ-REEL7
designator U?
Single 14-Bit nanoDAC with SPI Interface, 5 V, <100 uA, -40 to +125 degC, KS-6, Pb-Free, Reel; Generic Part Number: AD5641; Manufacturer: Analog Devices; PartNumber: AD5641AKSZ-REEL7; # DAC Outputs: 1; Max V+: 5.5V; Op Pwr Diss: 550µW; Resolution (Bits): 14; Settling Time: 6µs; Single Supply: Yes; DatasheetVersion: Rev.D; PackageVersion: 072809-A; PackageReference: KS-6; PackageDescription: 6-Lead Thin Shrink Small Outline Transistor Package [SC70]; Supplier 1: Digi-Key; Supplier Part Number 1: AD5641AKSZ-REEL7TR-ND; Supplier 2: Digi-Key; Supplier Part Number 2: AD5641AKSZ-REEL7CT-ND; Supplier 3: Digi-Key; Supplier Part Number 3: AD5641AKSZ-REEL7DKR-ND; Supplier 4: Mouser; Supplier Part Number 4: 584-AD5641AKSZ-R7; Packing: Reel; RoHS: Y; Mounting Technology: Surface Mount; Code_JEDEC: MO-203-AB; ComponentLink1Description: Manufacturer URL; ComponentLink1URL: http://www.analog.com/en/index.html; ComponentLink2Description: Datasheet; ComponentLink2URL: http://www.analog.com/static/imported-files/data_sheets/AD5641.pdf; ComponentLink3Description: Package Specification; ComponentLink3URL: http://www.analog.com/static/imported-files/packages/PKG_PDF/SC70(KS)/KS_6.pdf; ComponentLink4Description: Product URL; ComponentLink4URL: http://www.analog.com/en/digital-to-analog-converters/da-converters/ad5641/products/product.html
footprint KS-6_N (SOT23, 6-Leads, Body 2x1.3mm, Pitch 0.65mm, Lead Span 2.1mm, IPC Medium Density)
footprint KS-6_L (SOT23, 6-Leads, Body 2x1.3mm, Pitch 0.65mm, Lead Span 2.1mm, IPC High Density)
footprint KS-6_M (SOT23, 6-Leads, Body 2x1.3mm, Pitch 0.65mm, Lead Span 2.1mm, IPC Low Density)
pins: 1 ~{SYNC} (in) "Level-Triggered Control Input (Active Low). This is the frame synchronization signal for the input data. When S\Y\N\C\ goes low, it enables the input shift register and data is transferred in on the falling edges of the (See Datasheet)", 2 SCLK (in) "Serial Clock Input. Data is clocked into the input shift register on the falling edge of the serial clock input. Data can be transferred at rates up to 30 MHz.", 3 SDIN (in) "Serial Data Input. This device has a 16-bit shift register. Data is clocked into the register on the fallingedge of the serial clock input.", 4 VDD (power) "Power Supply Input. The AD5641 can be operated from 2.7 V to 5.5 V. VDD should be decoupled toGND.", 5 GND (power) "Ground Reference Point for All Circuitry on the AD5641.", 6 VOUT (hiz) "Analog Output Voltage from the DAC. The output amplifier has rail-to-rail operation."

## AD5641BKSZ-500RL7
designator U?
Single 14-Bit nanoDAC with SPI Interface, 5 V, <100 uA, -40 to +125 degC, KS-6, Pb-Free, Reel; Generic Part Number: AD5641; Manufacturer: Analog Devices; PartNumber: AD5641BKSZ-500RL7; # DAC Outputs: 1; Max V+: 5.5V; Op Pwr Diss: 550µW; Resolution (Bits): 14; Settling Time: 6µs; Single Supply: Yes; DatasheetVersion: Rev.D; PackageVersion: 072809-A; PackageReference: KS-6; PackageDescription: 6-Lead Thin Shrink Small Outline Transistor Package [SC70]; Supplier 1: Digi-Key; Supplier Part Number 1: AD5641BKSZ-500RL7TR-ND; Supplier 2: Digi-Key; Supplier Part Number 2: AD5641BKSZ-500RL7CT-ND; Supplier 3: Digi-Key; Supplier Part Number 3: AD5641BKSZ-500RL7DKR-ND; Supplier 4: Newark; Supplier Part Number 4: 64M7537; Supplier 5: Mouser; Supplier Part Number 5: 584-AD5641BKSZ-500R7; Packing: Reel; RoHS: Y; Mounting Technology: Surface Mount; Code_JEDEC: MO-203-AB; ComponentLink1Description: Manufacturer URL; ComponentLink1URL: http://www.analog.com/en/index.html; ComponentLink2Description: Datasheet; ComponentLink2URL: http://www.analog.com/static/imported-files/data_sheets/AD5641.pdf; ComponentLink3Description: Package Specification; ComponentLink3URL: http://www.analog.com/static/imported-files/packages/PKG_PDF/SC70(KS)/KS_6.pdf; ComponentLink4Description: Product URL; ComponentLink4URL: http://www.analog.com/en/digital-to-analog-converters/da-converters/ad5641/products/product.html
footprint KS-6_N (SOT23, 6-Leads, Body 2x1.3mm, Pitch 0.65mm, Lead Span 2.1mm, IPC Medium Density)
footprint KS-6_L (SOT23, 6-Leads, Body 2x1.3mm, Pitch 0.65mm, Lead Span 2.1mm, IPC High Density)
footprint KS-6_M (SOT23, 6-Leads, Body 2x1.3mm, Pitch 0.65mm, Lead Span 2.1mm, IPC Low Density)
pins: 1 ~{SYNC} (in) "Level-Triggered Control Input (Active Low). This is the frame synchronization signal for the input data. When S\Y\N\C\ goes low, it enables the input shift register and data is transferred in on the falling edges of the (See Datasheet)", 2 SCLK (in) "Serial Clock Input. Data is clocked into the input shift register on the falling edge of the serial clock input. Data can be transferred at rates up to 30 MHz.", 3 SDIN (in) "Serial Data Input. This device has a 16-bit shift register. Data is clocked into the register on the fallingedge of the serial clock input.", 4 VDD (power) "Power Supply Input. The AD5641 can be operated from 2.7 V to 5.5 V. VDD should be decoupled toGND.", 5 GND (power) "Ground Reference Point for All Circuitry on the AD5641.", 6 VOUT (hiz) "Analog Output Voltage from the DAC. The output amplifier has rail-to-rail operation."

## AD5641BKSZ-REEL7
designator U?
Single 14-Bit nanoDAC with SPI Interface, 5 V, <100 uA, -40 to +125 degC, KS-6, Pb-Free, Reel; Generic Part Number: AD5641; Manufacturer: Analog Devices; PartNumber: AD5641BKSZ-REEL7; # DAC Outputs: 1; Max V+: 5.5V; Op Pwr Diss: 550µW; Resolution (Bits): 14; Settling Time: 6µs; Single Supply: Yes; DatasheetVersion: Rev.D; PackageVersion: 072809-A; PackageReference: KS-6; PackageDescription: 6-Lead Thin Shrink Small Outline Transistor Package [SC70]; Supplier 1: Digi-Key; Supplier Part Number 1: AD5641BKSZ-REEL7TR-ND; Supplier 2: Digi-Key; Supplier Part Number 2: AD5641BKSZ-REEL7CT-ND; Supplier 3: Digi-Key; Supplier Part Number 3: AD5641BKSZ-REEL7DKR-ND; Supplier 4: Farnell; Supplier Part Number 4: 2102394; Supplier 5: Newark; Supplier Part Number 5: 64M7536; Supplier 6: Newark; Supplier Part Number 6: 92T3216; Supplier 7: Mouser; Supplier Part Number 7: 584-AD5641BKSZ-R7; Packing: Reel; RoHS: Y; Mounting Technology: Surface Mount; Code_JEDEC: MO-203-AB; ComponentLink1Description: Manufacturer URL; ComponentLink1URL: http://www.analog.com/en/index.html; ComponentLink2Description: Datasheet; ComponentLink2URL: http://www.analog.com/static/imported-files/data_sheets/AD5641.pdf; ComponentLink3Description: Package Specification; ComponentLink3URL: http://www.analog.com/static/imported-files/packages/PKG_PDF/SC70(KS)/KS_6.pdf; ComponentLink4Description: Product URL; ComponentLink4URL: http://www.analog.com/en/digital-to-analog-converters/da-converters/ad5641/products/product.html
footprint KS-6_N (SOT23, 6-Leads, Body 2x1.3mm, Pitch 0.65mm, Lead Span 2.1mm, IPC Medium Density)
footprint KS-6_L (SOT23, 6-Leads, Body 2x1.3mm, Pitch 0.65mm, Lead Span 2.1mm, IPC High Density)
footprint KS-6_M (SOT23, 6-Leads, Body 2x1.3mm, Pitch 0.65mm, Lead Span 2.1mm, IPC Low Density)
pins: 1 ~{SYNC} (in) "Level-Triggered Control Input (Active Low). This is the frame synchronization signal for the input data. When S\Y\N\C\ goes low, it enables the input shift register and data is transferred in on the falling edges of the (See Datasheet)", 2 SCLK (in) "Serial Clock Input. Data is clocked into the input shift register on the falling edge of the serial clock input. Data can be transferred at rates up to 30 MHz.", 3 SDIN (in) "Serial Data Input. This device has a 16-bit shift register. Data is clocked into the register on the fallingedge of the serial clock input.", 4 VDD (power) "Power Supply Input. The AD5641 can be operated from 2.7 V to 5.5 V. VDD should be decoupled toGND.", 5 GND (power) "Ground Reference Point for All Circuitry on the AD5641.", 6 VOUT (hiz) "Analog Output Voltage from the DAC. The output amplifier has rail-to-rail operation."

## AD5643RBRMZ-3
designator U?
Dual 14-Bit nanoDAC with 5 ppm/degC On-Chip Reference, -40 to +105 degC, RM-10, Pb-Free, Tube; Generic Part Number: AD5643R; Manufacturer: Analog Devices; PartNumber: AD5643RBRMZ-3; # DAC Outputs: 2; Max V+: 5.5V; Op Pwr Diss: 5mW; Resolution (Bits): 14; Settling Time: 3.5µs; Single Supply: Yes; DatasheetVersion: Rev.E; PackageVersion: May-2005; PackageReference: RM-10; PackageDescription: 10-Lead Mini Small Outline Package [MSOP]; Supplier 1: Digi-Key; Supplier Part Number 1: AD5643RBRMZ-3-ND; Supplier 2: Newark; Supplier Part Number 2: 19M0828; Supplier 3: Mouser; Supplier Part Number 3: 584-AD5643RBRMZ-3; Packing: Tube; RoHS: Y; Mounting Technology: Surface Mount; ComponentLink1Description: Manufacturer URL; ComponentLink1URL: http://www.analog.com/en/index.html; ComponentLink2Description: Datasheet; ComponentLink2URL: http://www.analog.com/static/imported-files/data_sheets/AD5623R_5643R_5663R.pdf; ComponentLink3Description: Package Specification; ComponentLink3URL: http://www.analog.com/static/imported-files/packages/PKG_PDF/MSOP%28RM%29/RM_10.pdf; ComponentLink4Description: Product URL; ComponentLink4URL: http://www.analog.com/en/digital-to-analog-converters/da-converters/ad5643r/products/product.html
footprint RM-10_N (TSSOP, 10-Leads, Body 3x3mm, Pitch 0.5mm, IPC Medium Density)
footprint RM-10_L (TSSOP, 10-Leads, Body 3x3mm, Pitch 0.5mm, IPC High Density)
footprint RM-10_M (TSSOP, 10-Leads, Body 3x3mm, Pitch 0.5mm, IPC Low Density)
pins: 1 VOUTA (hiz) "Analog Output Voltage from DAC A. The output amplifier has rail-to-rail operation.", 2 VOUTB (hiz) "Analog Output Voltage from DAC B. The output amplifier has rail-to-rail operation.", 3 GND (power) "Ground. Reference point for all circuitry on the part.", 4 ~{LDAC} (in) "Pulsing this pin low allows any or all DAC registers to be updated if the input registers have new data. This allows simultaneous update of all DAC outputs. Alternatively, this pin can be tied permanently low.", 5 ~{CLR} (in) "Asynchronous Clear Input. The C\L\R input is falling edge sensitive. While C\L\R\ is low, all L\D\A\C\ pulses are ignored. When C\L\R\ is activated, zero scale is loaded to all input and DAC registers. This clears the output (See Datasheet)", 6 ~{SYNC} (in) "Level-Triggered Control Input (Active Low). This is the frame synchronization signal for the input data. When S\Y\N\C\ goes low, it enables the input shift register, and data is transferred in on the falling edges of the (See Datasheet)", 7 SCLK (in) "Serial Clock Input. Data is clocked into the input shift register on the falling edge of the serial clock input. Data can be transferred at rates up to 50 MHz.", 8 DIN (in) "Serial Data Input. This device has a 24-bit shift register. Data is clocked into the register on the falling edge of the serial clock input.", 9 VDD (power) "Power Supply Input. These parts can be operated from 2.7 V to 5.5 V, and the supply should be decoupled with a 10 uF capacitor in parallel with a 0.1 uF capacitor to GND.", 10 VREFIN/VREFOUT (io) "Common Reference Input/Reference Output. When the internal reference is selected, this is the reference output pin. When using an external reference, this is the reference input pin. The default for this pin is a reference (See Datasheet)"